# EAGLE library part AS-ITM-00388 (library tinycircuits)
CONN RCPT USB C 3.1 SMT R/A 1054500101
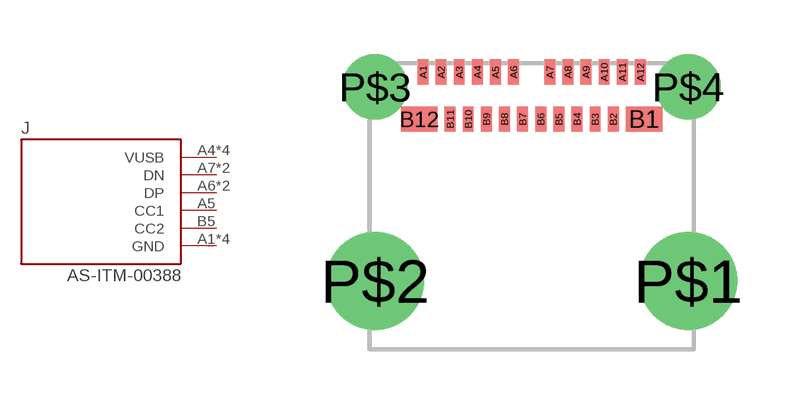
[diagram p158: symbol with the pads of 1054500101; footprint 1054500101]

Designator prefix J

## AS-ITM-00388 (PARTNO: AS-ITM-00388; PNPROTATION: 180; VALUE: USB-C)  [1054500101]
A1  GND
A4  VUSB
A5  CC1
A6  DP
A7  DN
A9  VUSB
A12  GND
B1  GND
B4  VUSB
B5  CC2
B6  DP
B7  DN
B9  VUSB
B12  GND

## Footprint 1054500101 (pad centres in mm)
smd 0.3 x 0.7: A1 -3,3.71; A2 -2.5,3.71; A3 -2,3.71; A4 -1.5,3.71; A5 -1,3.71; A6 -0.5,3.71; A7 0.5,3.71; A8 1,3.71; A9 1.5,3.71; A10 2,3.71; A11 2.5,3.71; A12 3,3.71; B2 2.25,2.41; B3 1.75,2.41; B4 1.25,2.41; B5 0.75,2.41; B6 0.25,2.41; B7 -0.25,2.41; B8 -0.75,2.41; B9 -1.25,2.41; B10 -1.75,2.41; B11 -2.25,2.41
smd 1 x 0.7: B1 3.1,2.41; B12 -3.1,2.41
drill 1.8: P$1 4.32,-2.06; P$2 -4.32,-2.06
drill 1.2: P$3 -4.32,3.3; P$4 4.32,3.3